# EAGLE library part 2706-105/000-017 (library con-wago_2706)
Stand: 01.01.2014. Die jeweils aktuellen Daten zu diesem Artikel finden Sie in unserem Produktkatalog, den Sie unter www.wago.com einsehen können. As of: 01/01/2014. Please find the newest data for this article in our product catalogue, which can be viewed under www.wago.com.
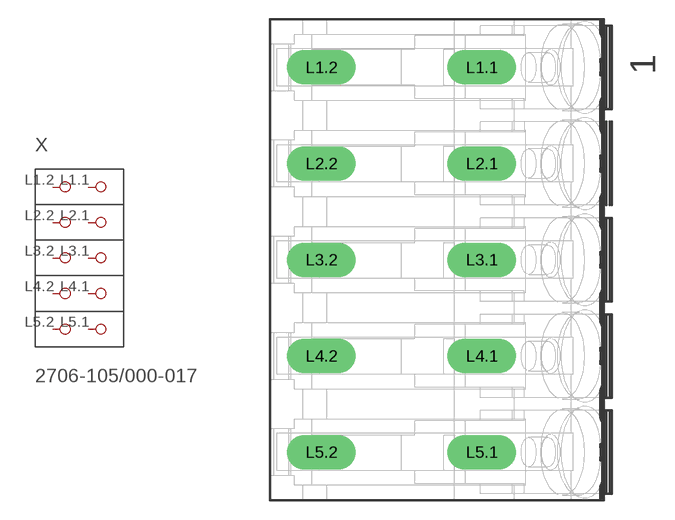
[diagram p42: symbol with the pads of P-2706-105; footprint P-2706-105]

Designator prefix X

## 2706-105/000-017  [P-2706-105]
L1.1  P1.1
L1.2  P1.2
L2.1  P2.1
L2.2  P2.2
L3.1  P3.1
L3.2  P3.2
L4.1  P4.1
L4.2  P4.2
L5.1  P5.1
L5.2  P5.2

## Footprint P-2706-105 (pad centres in mm)
drill 1.8 long: L1.1 3.185,15; L1.2 -9.315,15; L2.1 3.185,7.5; L2.2 -9.315,7.5; L3.1 3.185,0; L3.2 -9.315,0; L4.1 3.185,-7.5; L4.2 -9.315,-7.5; L5.1 3.185,-15; L5.2 -9.315,-15